# Altium integrated library Maxim Digital Potentiometers.IntLib: 1045 symbols (part 16 of 42)
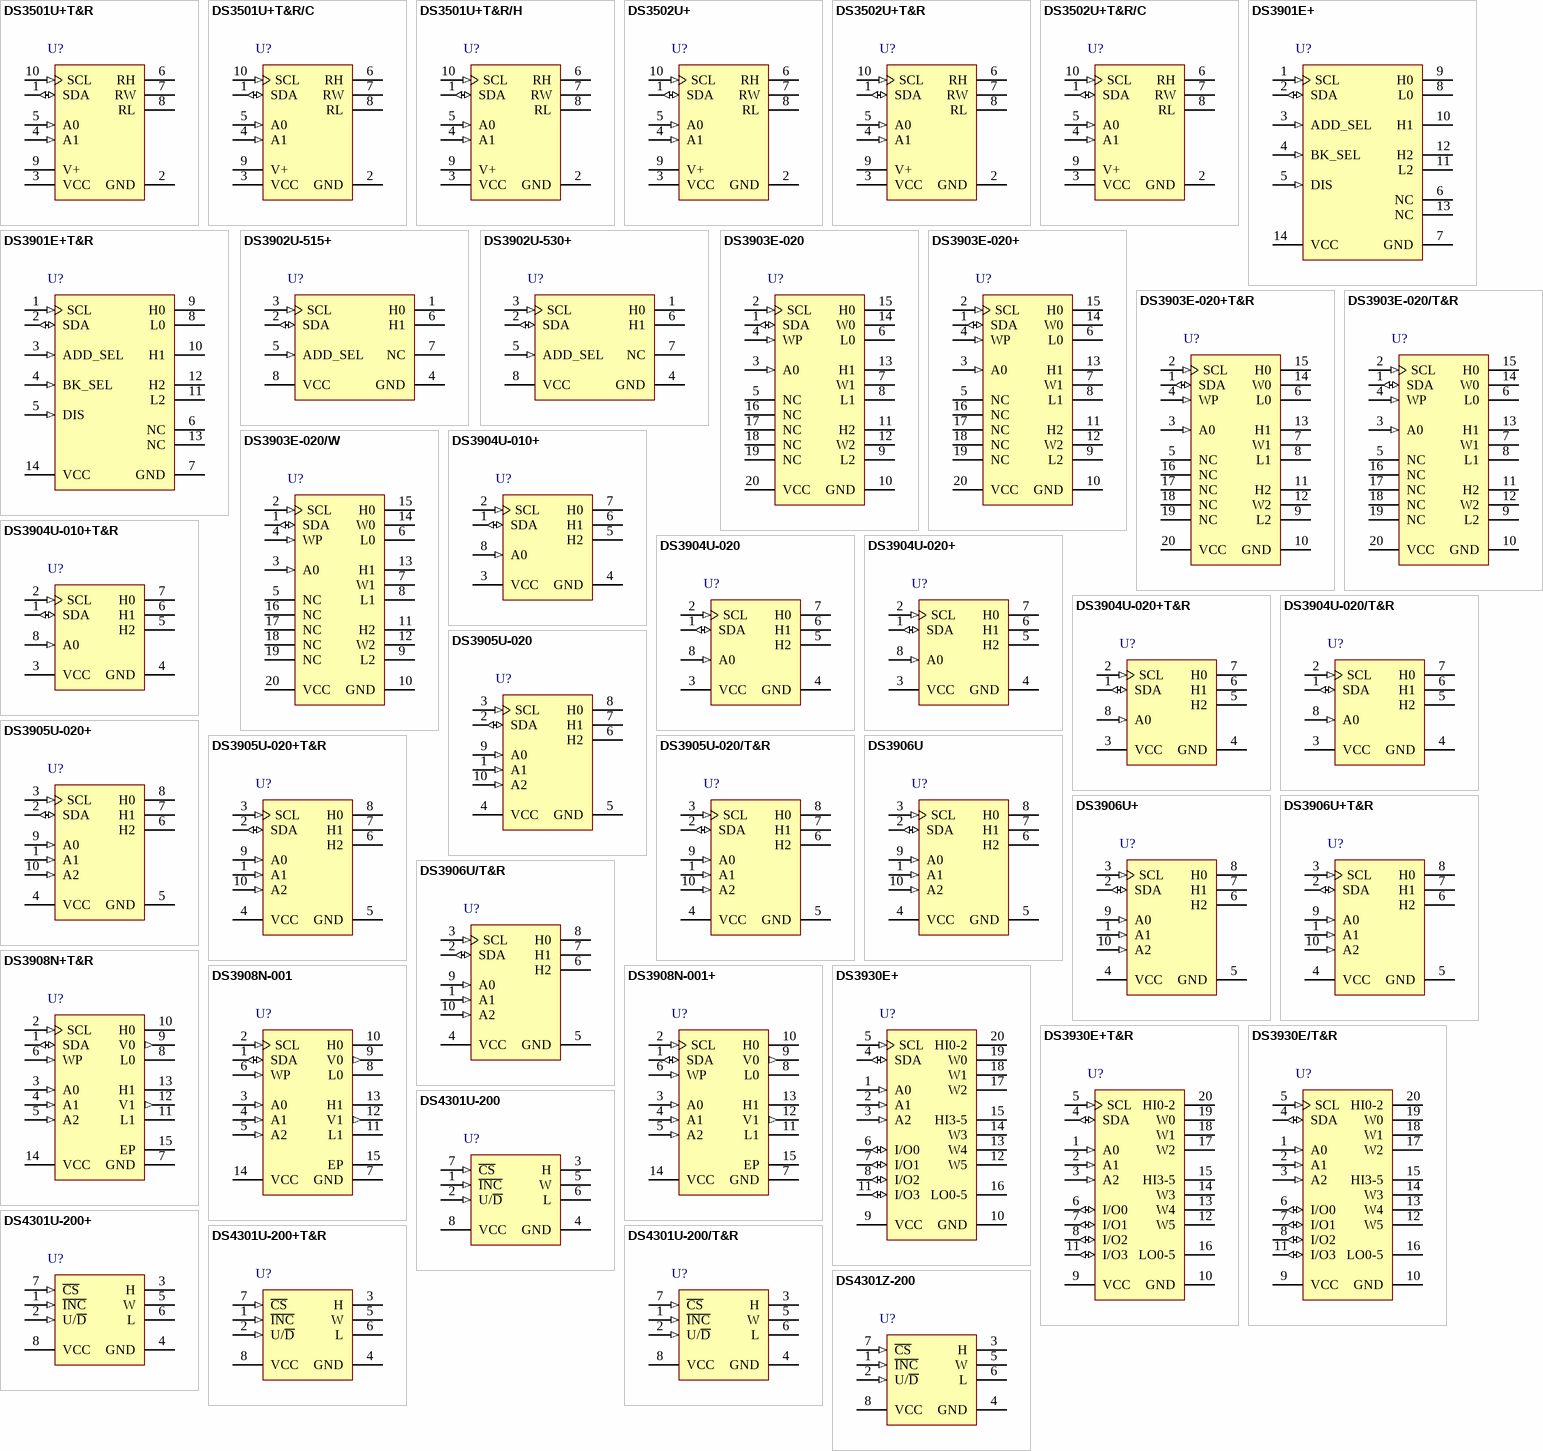
[diagram p44: symbols DS3501U+T&R to DS4301Z-200]

## DS3903E-020+T&R
designator U?
Triple 128-Position Digital Potentiometer with 2-Wire Addressable Control Interface, Non-Volatile, Linear Taper, -40 to 85 degC, 20-pin TSSOP (U20+1), Pb-Free, Tape and Reel; PartNumber: DS3903E-020+T&R; DatasheetVersion: Rev. 0; PackageVersion: Rev. L, 07/2010; PackageReference: U20+1; PackageDescription: 20-Pin Thin Shrink Small-Outline Package (U20+1), Body 6.5 x4.4 mm, Pitch 0.65 mm; Supplier 1: Digi-Key; Supplier Part Number 1: DS3903E-020+T&R-ND; Supplier 2: Mouser; Supplier Part Number 2: 700-DS3903E-020T&R; Applications: Fiber Communications, Power Supply Cal.; Control Interface: 2-Wire Addressable; Features: EEPROM Wiper Memory; Mounting Technology: Surface Mount; Code_JEDEC: MO-153; ComponentLink1Description: Manufacturer URL; ComponentLink1URL: http://www.maximintegrated.com/; ComponentLink2Description: Datasheet; ComponentLink2URL: http://datasheets.maximintegrated.com/en/ds/DS3903.pdf; ComponentLink3Description: Package Specification; ComponentLink3URL: http://pdfserv.maximintegrated.com/package_dwgs/21-0066.PDF
footprint MAXM-U20+1_N (SOP, 20-Leads, Body 6.5x4.4mm, Pitch 0.65mm, IPC Medium Density)
footprint MAXM-U20+1_L (SOP, 20-Leads, Body 6.5x4.4mm, Pitch 0.65mm, IPC High Density)
footprint MAXM-U20+1_M (SOP, 20-Leads, Body 6.5x4.4mm, Pitch 0.65mm, IPC Low Density)
pins: 1 SDA (io) "2-Wire Serial Data. Input/output for 2-wire data.", 2 SCL (in) "2-Wire Serial Clock. Input for 2-wire clock.", 3 A0 (in) "Address-Select Input. Determines device 2-wire address.", 4 WP (in) "Write-Protect Input. Must be grounded to write to the potentiometer registers. An internal pullup locks the potentiometer positions if this pin is not connected.", 5 NC "No Connection", 6 L0 "Potentiometer Low Terminals. Voltages on these pins should remain between GND and +5.5V while VCC is above +2.7V. Low terminals can be at potentials above the wiper or high terminals.", 7 W1 "Potentiometer Wiper Terminal. Voltages on these pins should remain between GND and +5.5V while VCC is above +2.7V.", 8 L1 "Potentiometer Low Terminals. Voltages on these pins should remain between GND and +5.5V while VCC is above +2.7V. Low terminals can be at potentials above the wiper or high terminals.", 9 L2 "Potentiometer Low Terminals. Voltages on these pins should remain between GND and +5.5V while VCC is above +2.7V. Low terminals can be at potentials above the wiper or high terminals.", 10 GND (power) "Ground Terminal", 11 H2 "Potentiometer High Terminals. Voltages on these pins should remain between GND and +5.5V while VCC is above +2.7V. High terminals can be at potentials below the low terminals.", 12 W2 "Potentiometer Wiper Terminal. Voltages on these pins should remain between GND and +5.5V while VCC is above +2.7V.", 13 H1 "Potentiometer High Terminals. Voltages on these pins should remain between GND and +5.5V while VCC is above +2.7V. High terminals can be at potentials below the low terminals.", 14 W0 "Potentiometer Wiper Terminal. Voltages on these pins should remain between GND and +5.5V while VCC is above +2.7V.", 15 H0 "Potentiometer High Terminals. Voltages on these pins should remain between GND and +5.5V while VCC is above +2.7V. High terminals can be at potentials below the low terminals.", 16 NC "No Connection", 17 NC "No Connection", 18 NC "No Connection", 19 NC "No Connection", 20 VCC (power) "Supply Voltage Terminal"

## DS3903E-020/T&R
designator U?
Triple 128-Position Digital Potentiometer with 2-Wire Addressable Control Interface, Non-Volatile, Linear Taper, -40 to 85 degC, 20-pin TSSOP (U20-1), Tape and Reel; PartNumber: DS3903E-020/T&R; DatasheetVersion: Rev. 0; PackageVersion: Rev. L, 07/2010; PackageReference: U20-1; PackageDescription: 20-Pin Thin Shrink Small-Outline Package (U20-1), Body 6.5 x 4.4 mm, Pitch 0.65 mm; Supplier 1: Digi-Key; Supplier Part Number 1: DS3903E-020/T&R-ND; Supplier 2: Mouser; Supplier Part Number 2: N/A; Applications: Fiber Communications, Power Supply Cal.; Control Interface: 2-Wire Addressable; Features: EEPROM Wiper Memory; Mounting Technology: Surface Mount; Code_JEDEC: MO-153; ComponentLink1Description: Manufacturer URL; ComponentLink1URL: http://www.maximintegrated.com/; ComponentLink2Description: Datasheet; ComponentLink2URL: http://datasheets.maximintegrated.com/en/ds/DS3903.pdf; ComponentLink3Description: Package Specification; ComponentLink3URL: http://pdfserv.maximintegrated.com/package_dwgs/21-0066.PDF
footprint MAXM-U20-1_N (SOP, 20-Leads, Body 6.5x4.40mm, Pitch 0.65mm, IPC Medium Density)
footprint MAXM-U20-1_L (SOP, 20-Leads, Body 6.5x4.40mm, Pitch 0.65mm, IPC High Density)
footprint MAXM-U20-1_M (SOP, 20-Leads, Body 6.5x4.40mm, Pitch 0.65mm, IPC Low Density)
pins: 1 SDA (io) "2-Wire Serial Data. Input/output for 2-wire data.", 2 SCL (in) "2-Wire Serial Clock. Input for 2-wire clock.", 3 A0 (in) "Address-Select Input. Determines device 2-wire address.", 4 WP (in) "Write-Protect Input. Must be grounded to write to the potentiometer registers. An internal pullup locks the potentiometer positions if this pin is not connected.", 5 NC "No Connection", 6 L0 "Potentiometer Low Terminals. Voltages on these pins should remain between GND and +5.5V while VCC is above +2.7V. Low terminals can be at potentials above the wiper or high terminals.", 7 W1 "Potentiometer Wiper Terminal. Voltages on these pins should remain between GND and +5.5V while VCC is above +2.7V.", 8 L1 "Potentiometer Low Terminals. Voltages on these pins should remain between GND and +5.5V while VCC is above +2.7V. Low terminals can be at potentials above the wiper or high terminals.", 9 L2 "Potentiometer Low Terminals. Voltages on these pins should remain between GND and +5.5V while VCC is above +2.7V. Low terminals can be at potentials above the wiper or high terminals.", 10 GND (power) "Ground Terminal", 11 H2 "Potentiometer High Terminals. Voltages on these pins should remain between GND and +5.5V while VCC is above +2.7V. High terminals can be at potentials below the low terminals.", 12 W2 "Potentiometer Wiper Terminal. Voltages on these pins should remain between GND and +5.5V while VCC is above +2.7V.", 13 H1 "Potentiometer High Terminals. Voltages on these pins should remain between GND and +5.5V while VCC is above +2.7V. High terminals can be at potentials below the low terminals.", 14 W0 "Potentiometer Wiper Terminal. Voltages on these pins should remain between GND and +5.5V while VCC is above +2.7V.", 15 H0 "Potentiometer High Terminals. Voltages on these pins should remain between GND and +5.5V while VCC is above +2.7V. High terminals can be at potentials below the low terminals.", 16 NC "No Connection", 17 NC "No Connection", 18 NC "No Connection", 19 NC "No Connection", 20 VCC (power) "Supply Voltage Terminal"

## DS3903E-020/W
designator U?
Triple 128-Position Digital Potentiometer with 2-Wire Addressable Control Interface, Non-Volatile, Linear Taper, -40 to 85 degC, 20-pin TSSOP (U20-1); PartNumber: DS3903E-020/W; DatasheetVersion: Rev. 0; PackageVersion: Rev. L, 07/2010; PackageReference: U20-1; PackageDescription: 20-Pin Thin Shrink Small-Outline Package (U20-1), Body 6.5 x 4.4 mm, Pitch 0.65 mm; Supplier 1: Mouser; Supplier Part Number 1: N/A; Applications: Fiber Communications, Power Supply Cal.; Control Interface: 2-Wire Addressable; Features: EEPROM Wiper Memory; Mounting Technology: Surface Mount; Code_JEDEC: MO-153; ComponentLink1Description: Manufacturer URL; ComponentLink1URL: http://www.maximintegrated.com/; ComponentLink2Description: Datasheet; ComponentLink2URL: http://datasheets.maximintegrated.com/en/ds/DS3903.pdf; ComponentLink3Description: Package Specification; ComponentLink3URL: http://pdfserv.maximintegrated.com/package_dwgs/21-0066.PDF
footprint MAXM-U20-1_N (SOP, 20-Leads, Body 6.5x4.40mm, Pitch 0.65mm, IPC Medium Density)
footprint MAXM-U20-1_L (SOP, 20-Leads, Body 6.5x4.40mm, Pitch 0.65mm, IPC High Density)
footprint MAXM-U20-1_M (SOP, 20-Leads, Body 6.5x4.40mm, Pitch 0.65mm, IPC Low Density)
pins: 1 SDA (io) "2-Wire Serial Data. Input/output for 2-wire data.", 2 SCL (in) "2-Wire Serial Clock. Input for 2-wire clock.", 3 A0 (in) "Address-Select Input. Determines device 2-wire address.", 4 WP (in) "Write-Protect Input. Must be grounded to write to the potentiometer registers. An internal pullup locks the potentiometer positions if this pin is not connected.", 5 NC "No Connection", 6 L0 "Potentiometer Low Terminals. Voltages on these pins should remain between GND and +5.5V while VCC is above +2.7V. Low terminals can be at potentials above the wiper or high terminals.", 7 W1 "Potentiometer Wiper Terminal. Voltages on these pins should remain between GND and +5.5V while VCC is above +2.7V.", 8 L1 "Potentiometer Low Terminals. Voltages on these pins should remain between GND and +5.5V while VCC is above +2.7V. Low terminals can be at potentials above the wiper or high terminals.", 9 L2 "Potentiometer Low Terminals. Voltages on these pins should remain between GND and +5.5V while VCC is above +2.7V. Low terminals can be at potentials above the wiper or high terminals.", 10 GND (power) "Ground Terminal", 11 H2 "Potentiometer High Terminals. Voltages on these pins should remain between GND and +5.5V while VCC is above +2.7V. High terminals can be at potentials below the low terminals.", 12 W2 "Potentiometer Wiper Terminal. Voltages on these pins should remain between GND and +5.5V while VCC is above +2.7V.", 13 H1 "Potentiometer High Terminals. Voltages on these pins should remain between GND and +5.5V while VCC is above +2.7V. High terminals can be at potentials below the low terminals.", 14 W0 "Potentiometer Wiper Terminal. Voltages on these pins should remain between GND and +5.5V while VCC is above +2.7V.", 15 H0 "Potentiometer High Terminals. Voltages on these pins should remain between GND and +5.5V while VCC is above +2.7V. High terminals can be at potentials below the low terminals.", 16 NC "No Connection", 17 NC "No Connection", 18 NC "No Connection", 19 NC "No Connection", 20 VCC (power) "Supply Voltage Terminal"

## DS3904U-010+
designator U?
Triple 128-Position Variable Digital Resistor/Switch with 2-Wire Addressable Control Interface, Non-Volatile, Linear Taper, -40 to 85 degC, 8-pin uMAX (U8+1), Pb-Free; PartNumber: DS3904U-010+; DatasheetVersion: Rev. 3; PackageVersion: Rev. L, 08/2009; PackageReference: U8+1; PackageDescription: 8-Pin Micro-MAX, Thin Shrink Small-Outline (U8+1), Body 3 x 3 mm, Pitch 0.65 mm; Supplier 1: Digi-Key; Supplier Part Number 1: DS3904U-010+-ND; Supplier 2: Mouser; Supplier Part Number 2: 700-DS3904U-010; Applications: Fiber Communications, Power Supply Cal.; Control Interface: 2-Wire Addressable; Features: EEPROM Wiper Memory; Mounting Technology: Surface Mount; Code_JEDEC: MO-187; ComponentLink1Description: Manufacturer URL; ComponentLink1URL: http://www.maximintegrated.com/; ComponentLink2Description: Datasheet; ComponentLink2URL: http://datasheets.maximintegrated.com/en/ds/DS3904-DS3905.pdf; ComponentLink3Description: Package Specification; ComponentLink3URL: http://pdfserv.maximintegrated.com/package_dwgs/21-0036.PDF
footprint MAXM-U8+1_N (SOP, 8-Leads, Body 3x3mm, Pitch 0.65mm, IPC Medium Density)
footprint MAXM-U8+1_L (SOP, 8-Leads, Body 3x3mm, Pitch 0.65mm, IPC High Density)
footprint MAXM-U8+1_M (SOP, 8-Leads, Body 3x3mm, Pitch 0.65mm, IPC Low Density)
pins: 1 SDA (io) "2-Wire Serial Data. Open-drain input/output for 2-wire data.", 2 SCL (in) "2-Wire Serial Clock. Input for 2-wire clock.", 3 VCC (power) "Supply Voltage Terminal", 4 GND (power) "Ground Terminal", 5 H2 "Resistor 2 High Terminals", 6 H1 "Resistor 1 High Terminals", 7 H0 "Resistor 0 High Terminals", 8 A0 (in) "Address-Select Pin"

## DS3904U-010+T&R
designator U?
Triple 128-Position Variable Digital Resistor/Switch with 2-Wire Addressable Control Interface, Non-Volatile, Linear Taper, -40 to 85 degC, 8-pin uMAX (U8+1), Pb-Free, Tape and Reel; PartNumber: DS3904U-010+T&R; DatasheetVersion: Rev. 3; PackageVersion: Rev. L, 08/2009; PackageReference: U8+1; PackageDescription: 8-Pin Micro-MAX, Thin Shrink Small-Outline (U8+1), Body 3 x 3 mm, Pitch 0.65 mm; Supplier 1: Digi-Key; Supplier Part Number 1: DS3904U-010+T&R-ND; Supplier 2: Mouser; Supplier Part Number 2: 700-DS3904U-010T&R; Applications: Fiber Communications, Power Supply Cal.; Control Interface: 2-Wire Addressable; Features: EEPROM Wiper Memory; Mounting Technology: Surface Mount; Code_JEDEC: MO-187; ComponentLink1Description: Manufacturer URL; ComponentLink1URL: http://www.maximintegrated.com/; ComponentLink2Description: Datasheet; ComponentLink2URL: http://datasheets.maximintegrated.com/en/ds/DS3904-DS3905.pdf; ComponentLink3Description: Package Specification; ComponentLink3URL: http://pdfserv.maximintegrated.com/package_dwgs/21-0036.PDF
footprint MAXM-U8+1_N (SOP, 8-Leads, Body 3x3mm, Pitch 0.65mm, IPC Medium Density)
footprint MAXM-U8+1_L (SOP, 8-Leads, Body 3x3mm, Pitch 0.65mm, IPC High Density)
footprint MAXM-U8+1_M (SOP, 8-Leads, Body 3x3mm, Pitch 0.65mm, IPC Low Density)
pins: 1 SDA (io) "2-Wire Serial Data. Open-drain input/output for 2-wire data.", 2 SCL (in) "2-Wire Serial Clock. Input for 2-wire clock.", 3 VCC (power) "Supply Voltage Terminal", 4 GND (power) "Ground Terminal", 5 H2 "Resistor 2 High Terminals", 6 H1 "Resistor 1 High Terminals", 7 H0 "Resistor 0 High Terminals", 8 A0 (in) "Address-Select Pin"

## DS3904U-020
designator U?
Triple 128-Position Variable Digital Resistor/Switch with 2-Wire Addressable Control Interface, Non-Volatile, Linear Taper, -40 to 85 degC, 8-pin uMAX (U8-1); PartNumber: DS3904U-020; DatasheetVersion: Rev. 3; PackageVersion: Rev. L, 08/2009; PackageReference: U8-1; PackageDescription: 8-Pin Micro-MAX, Thin Shrink Small-Outline (U8-1), Body 3 x 3 mm, Pitch 0.65mm; Supplier 1: Mouser; Supplier Part Number 1: N/A; Applications: Fiber Communications, Power Supply Cal.; Control Interface: 2-Wire Addressable; Features: EEPROM Wiper Memory; Mounting Technology: Surface Mount; Code_JEDEC: MO-187; ComponentLink1Description: Manufacturer URL; ComponentLink1URL: http://www.maximintegrated.com/; ComponentLink2Description: Datasheet; ComponentLink2URL: http://datasheets.maximintegrated.com/en/ds/DS3904-DS3905.pdf; ComponentLink3Description: Package Specification; ComponentLink3URL: http://pdfserv.maximintegrated.com/package_dwgs/21-0036.PDF
footprint MAXM-U8-1_N (SOP, 8-Leads, Body 3x3mm, Pitch 0.65mm, IPC Medium Density)
footprint MAXM-U8-1_L (SOP, 8-Leads, Body 3x3mm, Pitch 0.65mm, IPC High Density)
footprint MAXM-U8-1_M (SOP, 8-Leads, Body 3x3mm, Pitch 0.65mm, IPC Low Density)
pins: 1 SDA (io) "2-Wire Serial Data. Open-drain input/output for 2-wire data.", 2 SCL (in) "2-Wire Serial Clock. Input for 2-wire clock.", 3 VCC (power) "Supply Voltage Terminal", 4 GND (power) "Ground Terminal", 5 H2 "Resistor 2 High Terminals", 6 H1 "Resistor 1 High Terminals", 7 H0 "Resistor 0 High Terminals", 8 A0 (in) "Address-Select Pin"

## DS3904U-020+
designator U?
Triple 128-Position Variable Digital Resistor/Switch with 2-Wire Addressable Control Interface, Non-Volatile, Linear Taper, -40 to 85 degC, 8-pin uMAX (U8+1), Pb-Free; PartNumber: DS3904U-020+; DatasheetVersion: Rev. 3; PackageVersion: Rev. L, 08/2009; PackageReference: U8+1; PackageDescription: 8-Pin Micro-MAX, Thin Shrink Small-Outline (U8+1), Body 3 x 3 mm, Pitch 0.65 mm; Supplier 1: Digi-Key; Supplier Part Number 1: DS3904U-020+-ND; Supplier 2: Newark; Supplier Part Number 2: 87H5662; Supplier 3: Mouser; Supplier Part Number 3: 700-DS3904U-020; Applications: Fiber Communications, Power Supply Cal.; Control Interface: 2-Wire Addressable; Features: EEPROM Wiper Memory; Mounting Technology: Surface Mount; Code_JEDEC: MO-187; ComponentLink1Description: Manufacturer URL; ComponentLink1URL: http://www.maximintegrated.com/; ComponentLink2Description: Datasheet; ComponentLink2URL: http://datasheets.maximintegrated.com/en/ds/DS3904-DS3905.pdf; ComponentLink3Description: Package Specification; ComponentLink3URL: http://pdfserv.maximintegrated.com/package_dwgs/21-0036.PDF
footprint MAXM-U8+1_N (SOP, 8-Leads, Body 3x3mm, Pitch 0.65mm, IPC Medium Density)
footprint MAXM-U8+1_L (SOP, 8-Leads, Body 3x3mm, Pitch 0.65mm, IPC High Density)
footprint MAXM-U8+1_M (SOP, 8-Leads, Body 3x3mm, Pitch 0.65mm, IPC Low Density)
pins: 1 SDA (io) "2-Wire Serial Data. Open-drain input/output for 2-wire data.", 2 SCL (in) "2-Wire Serial Clock. Input for 2-wire clock.", 3 VCC (power) "Supply Voltage Terminal", 4 GND (power) "Ground Terminal", 5 H2 "Resistor 2 High Terminals", 6 H1 "Resistor 1 High Terminals", 7 H0 "Resistor 0 High Terminals", 8 A0 (in) "Address-Select Pin"

## DS3904U-020+T&R
designator U?
Triple 128-Position Variable Digital Resistor/Switch with 2-Wire Addressable Control Interface, Non-Volatile, Linear Taper, -40 to 85 degC, 8-pin uMAX (U8+1), Pb-Free, Tape and Reel; PartNumber: DS3904U-020+T&R; DatasheetVersion: Rev. 3; PackageVersion: Rev. L, 08/2009; PackageReference: U8+1; PackageDescription: 8-Pin Micro-MAX, Thin Shrink Small-Outline (U8+1), Body 3 x 3 mm, Pitch 0.65 mm; Supplier 1: Digi-Key; Supplier Part Number 1: DS3904U-020+T&R-ND; Supplier 2: Mouser; Supplier Part Number 2: 700-DS3904U-020T&R; Applications: Fiber Communications, Power Supply Cal.; Control Interface: 2-Wire Addressable; Features: EEPROM Wiper Memory; Mounting Technology: Surface Mount; Code_JEDEC: MO-187; ComponentLink1Description: Manufacturer URL; ComponentLink1URL: http://www.maximintegrated.com/; ComponentLink2Description: Datasheet; ComponentLink2URL: http://datasheets.maximintegrated.com/en/ds/DS3904-DS3905.pdf; ComponentLink3Description: Package Specification; ComponentLink3URL: http://pdfserv.maximintegrated.com/package_dwgs/21-0036.PDF
footprint MAXM-U8+1_N (SOP, 8-Leads, Body 3x3mm, Pitch 0.65mm, IPC Medium Density)
footprint MAXM-U8+1_L (SOP, 8-Leads, Body 3x3mm, Pitch 0.65mm, IPC High Density)
footprint MAXM-U8+1_M (SOP, 8-Leads, Body 3x3mm, Pitch 0.65mm, IPC Low Density)
pins: 1 SDA (io) "2-Wire Serial Data. Open-drain input/output for 2-wire data.", 2 SCL (in) "2-Wire Serial Clock. Input for 2-wire clock.", 3 VCC (power) "Supply Voltage Terminal", 4 GND (power) "Ground Terminal", 5 H2 "Resistor 2 High Terminals", 6 H1 "Resistor 1 High Terminals", 7 H0 "Resistor 0 High Terminals", 8 A0 (in) "Address-Select Pin"

## DS3904U-020/T&R
designator U?
Triple 128-Position Variable Digital Resistor/Switch with 2-Wire Addressable Control Interface, Non-Volatile, Linear Taper, -40 to 85 degC, 8-pin uMAX (U8-1), Tape and Reel; PartNumber: DS3904U-020/T&R; DatasheetVersion: Rev. 3; PackageVersion: Rev. L, 08/2009; PackageReference: U8-1; PackageDescription: 8-Pin Micro-MAX, Thin Shrink Small-Outline (U8-1), Body 3 x 3 mm, Pitch 0.65mm; Supplier 1: Mouser; Supplier Part Number 1: N/A; Applications: Fiber Communications, Power Supply Cal.; Control Interface: 2-Wire Addressable; Features: EEPROM Wiper Memory; Mounting Technology: Surface Mount; Code_JEDEC: MO-187; ComponentLink1Description: Manufacturer URL; ComponentLink1URL: http://www.maximintegrated.com/; ComponentLink2Description: Datasheet; ComponentLink2URL: http://datasheets.maximintegrated.com/en/ds/DS3904-DS3905.pdf; ComponentLink3Description: Package Specification; ComponentLink3URL: http://pdfserv.maximintegrated.com/package_dwgs/21-0036.PDF
footprint MAXM-U8-1_N (SOP, 8-Leads, Body 3x3mm, Pitch 0.65mm, IPC Medium Density)
footprint MAXM-U8-1_L (SOP, 8-Leads, Body 3x3mm, Pitch 0.65mm, IPC High Density)
footprint MAXM-U8-1_M (SOP, 8-Leads, Body 3x3mm, Pitch 0.65mm, IPC Low Density)
pins: 1 SDA (io) "2-Wire Serial Data. Open-drain input/output for 2-wire data.", 2 SCL (in) "2-Wire Serial Clock. Input for 2-wire clock.", 3 VCC (power) "Supply Voltage Terminal", 4 GND (power) "Ground Terminal", 5 H2 "Resistor 2 High Terminals", 6 H1 "Resistor 1 High Terminals", 7 H0 "Resistor 0 High Terminals", 8 A0 (in) "Address-Select Pin"

## DS3905U-020
designator U?
Triple, Variable, Digital Resistor/Switch with 2-Wire Addressable Control Interface, Non-Volatile, Linear Taper, 128 Steps, -40 to 85 degC, 10-pin uMAX (U10-2); PartNumber: DS3905U-020; DatasheetVersion: Rev. 3; PackageVersion: Rev. L, 07/2008; PackageReference: U10-2; PackageDescription: 10-Pin Micro-MAX, Thin Shrink Small-Outline (U10-2), Body 3 x 3 mm, Pitch 0.5 mm; Supplier 1: Digi-Key; Supplier Part Number 1: DS3905U-020-ND; Supplier 2: Mouser; Supplier Part Number 2: N/A; Applications: Fiber Communications, Power Supply Cal.; Control Interface: 2-Wire Addressable; Features: EEPROM Wiper Memory; Mounting Technology: Surface Mount; Code_JEDEC: MO-187; ComponentLink1Description: Manufacturer URL; ComponentLink1URL: http://www.maximintegrated.com/; ComponentLink2Description: Datasheet; ComponentLink2URL: http://datasheets.maximintegrated.com/en/ds/DS3904-DS3905.pdf; ComponentLink3Description: Package Specification; ComponentLink3URL: http://pdfserv.maximintegrated.com/package_dwgs/21-0061.PDF
footprint MAXM-U10-2_N (SOP, 10-Leads, Body 3x3mm, Pitch 0.5mm, IPC Medium Density)
footprint MAXM-U10-2_L (SOP, 10-Leads, Body 3x3mm, Pitch 0.5mm, IPC High Density)
footprint MAXM-U10-2_M (SOP, 10-Leads, Body 3x3mm, Pitch 0.5mm, IPC Low Density)
pins: 1 A1 (in) "I2C Address Input. Inputs A0, A1, and A2 determine the I2C slave address of the device.", 2 SDA (io) "I2C Serial Data Open-Drain Input/Output", 3 SCL (in) "I2C Serial Clock Input", 4 VCC (power) "Power Supply Voltage", 5 GND (power) "Ground", 6 H2 "High Terminal of Resistor 2", 7 H1 "High Terminal of Resistor 1", 8 H0 "High Terminal of Resistor 0", 9 A0 (in) "I2C Address Input. Inputs A0, A1, and A2 determine the I2C slave address of the device.", 10 A2 (in) "I2C Address Input. Inputs A0, A1, and A2 determine the I2C slave address of the device."

## DS3905U-020+
designator U?
Triple, Variable, Digital Resistor/Switch with 2-Wire Addressable Control Interface, Non-Volatile, Linear Taper, 128 Steps, -40 to 85 degC, 10-pin uMAX (U10+2), Pb-Free; PartNumber: DS3905U-020+; DatasheetVersion: Rev. 3; PackageVersion: Rev. L, 07/2008; PackageReference: U10+2; PackageDescription: 10-Pin Micro-MAX, Thin Shrink Small-Outline (U10+2), Body 3 x 3 mm, Pitch 0.5 mm; Supplier 1: Digi-Key; Supplier Part Number 1: DS3905U-020+-ND; Supplier 2: Mouser; Supplier Part Number 2: 700-DS3905U-020; Applications: Fiber Communications, Power Supply Cal.; Control Interface: 2-Wire Addressable; Features: EEPROM Wiper Memory; Mounting Technology: Surface Mount; Code_JEDEC: MO-187; ComponentLink1Description: Manufacturer URL; ComponentLink1URL: http://www.maximintegrated.com/; ComponentLink2Description: Datasheet; ComponentLink2URL: http://datasheets.maximintegrated.com/en/ds/DS3904-DS3905.pdf; ComponentLink3Description: Package Specification; ComponentLink3URL: http://pdfserv.maximintegrated.com/package_dwgs/21-0061.PDF
footprint MAXM-U10+2_N (SOP, 10-Leads, Body 3x3mm, Pitch 0.5mm, IPC Medium Density)
footprint MAXM-U10+2_L (SOP, 10-Leads, Body 3x3mm, Pitch 0.5mm, IPC High Density)
footprint MAXM-U10+2_M (SOP, 10-Leads, Body 3x3mm, Pitch 0.5mm, IPC Low Density)
pins: 1 A1 (in) "I2C Address Input. Inputs A0, A1, and A2 determine the I2C slave address of the device.", 2 SDA (io) "I2C Serial Data Open-Drain Input/Output", 3 SCL (in) "I2C Serial Clock Input", 4 VCC (power) "Power Supply Voltage", 5 GND (power) "Ground", 6 H2 "High Terminal of Resistor 2", 7 H1 "High Terminal of Resistor 1", 8 H0 "High Terminal of Resistor 0", 9 A0 (in) "I2C Address Input. Inputs A0, A1, and A2 determine the I2C slave address of the device.", 10 A2 (in) "I2C Address Input. Inputs A0, A1, and A2 determine the I2C slave address of the device."

## DS3905U-020+T&R
designator U?
Triple, Variable, Digital Resistor/Switch with 2-Wire Addressable Control Interface, Non-Volatile, Linear Taper, 128 Steps, -40 to 85 degC, 10-pin uMAX (U10+2), Pb-Free, Tape and Reel; PartNumber: DS3905U-020+T&R; DatasheetVersion: Rev. 3; PackageVersion: Rev. L, 07/2008; PackageReference: U10+2; PackageDescription: 10-Pin Micro-MAX, Thin Shrink Small-Outline (U10+2), Body 3 x 3 mm, Pitch 0.5 mm; Supplier 1: Digi-Key; Supplier Part Number 1: DS3905U-020+T&R-ND; Supplier 2: Mouser; Supplier Part Number 2: 700-DS3905U-020T&R; Applications: Fiber Communications, Power Supply Cal.; Control Interface: 2-Wire Addressable; Features: EEPROM Wiper Memory; Mounting Technology: Surface Mount; Code_JEDEC: MO-187; ComponentLink1Description: Manufacturer URL; ComponentLink1URL: http://www.maximintegrated.com/; ComponentLink2Description: Datasheet; ComponentLink2URL: http://datasheets.maximintegrated.com/en/ds/DS3904-DS3905.pdf; ComponentLink3Description: Package Specification; ComponentLink3URL: http://pdfserv.maximintegrated.com/package_dwgs/21-0061.PDF
footprint MAXM-U10+2_N (SOP, 10-Leads, Body 3x3mm, Pitch 0.5mm, IPC Medium Density)
footprint MAXM-U10+2_L (SOP, 10-Leads, Body 3x3mm, Pitch 0.5mm, IPC High Density)
footprint MAXM-U10+2_M (SOP, 10-Leads, Body 3x3mm, Pitch 0.5mm, IPC Low Density)
pins: 1 A1 (in) "I2C Address Input. Inputs A0, A1, and A2 determine the I2C slave address of the device.", 2 SDA (io) "I2C Serial Data Open-Drain Input/Output", 3 SCL (in) "I2C Serial Clock Input", 4 VCC (power) "Power Supply Voltage", 5 GND (power) "Ground", 6 H2 "High Terminal of Resistor 2", 7 H1 "High Terminal of Resistor 1", 8 H0 "High Terminal of Resistor 0", 9 A0 (in) "I2C Address Input. Inputs A0, A1, and A2 determine the I2C slave address of the device.", 10 A2 (in) "I2C Address Input. Inputs A0, A1, and A2 determine the I2C slave address of the device."

## DS3905U-020/T&R
designator U?
Triple, Variable, Digital Resistor/Switch with 2-Wire Addressable Control Interface, Non-Volatile, Linear Taper, 128 Steps, -40 to 85 degC, 10-pin uMAX (U10-2), Tape and Reel; PartNumber: DS3905U-020/T&R; DatasheetVersion: Rev. 3; PackageVersion: Rev. L, 07/2008; PackageReference: U10-2; PackageDescription: 10-Pin Micro-MAX, Thin Shrink Small-Outline (U10-2), Body 3 x 3 mm, Pitch 0.5 mm; Supplier 1: Mouser; Supplier Part Number 1: N/A; Applications: Fiber Communications, Power Supply Cal.; Control Interface: 2-Wire Addressable; Features: EEPROM Wiper Memory; Mounting Technology: Surface Mount; Code_JEDEC: MO-187; ComponentLink1Description: Manufacturer URL; ComponentLink1URL: http://www.maximintegrated.com/; ComponentLink2Description: Datasheet; ComponentLink2URL: http://datasheets.maximintegrated.com/en/ds/DS3904-DS3905.pdf; ComponentLink3Description: Package Specification; ComponentLink3URL: http://pdfserv.maximintegrated.com/package_dwgs/21-0061.PDF
footprint MAXM-U10-2_N (SOP, 10-Leads, Body 3x3mm, Pitch 0.5mm, IPC Medium Density)
footprint MAXM-U10-2_L (SOP, 10-Leads, Body 3x3mm, Pitch 0.5mm, IPC High Density)
footprint MAXM-U10-2_M (SOP, 10-Leads, Body 3x3mm, Pitch 0.5mm, IPC Low Density)
pins: 1 A1 (in) "I2C Address Input. Inputs A0, A1, and A2 determine the I2C slave address of the device.", 2 SDA (io) "I2C Serial Data Open-Drain Input/Output", 3 SCL (in) "I2C Serial Clock Input", 4 VCC (power) "Power Supply Voltage", 5 GND (power) "Ground", 6 H2 "High Terminal of Resistor 2", 7 H1 "High Terminal of Resistor 1", 8 H0 "High Terminal of Resistor 0", 9 A0 (in) "I2C Address Input. Inputs A0, A1, and A2 determine the I2C slave address of the device.", 10 A2 (in) "I2C Address Input. Inputs A0, A1, and A2 determine the I2C slave address of the device."

## DS3906U
designator U?
Triple NV Low Step Size Variable Resistor plus Memory with 2-Wire Control Interface, Non-Volatile, Pseudo-Log Taper, 64 Steps, -40 to 85 degC, 10-pin uMAX (U10-2); PartNumber: DS3906U; DatasheetVersion: Rev. 1; PackageVersion: Rev. L, 07/2008; PackageReference: U10-2; PackageDescription: 10-Pin Micro-MAX, Thin Shrink Small-Outline (U10-2), Body 3 x 3 mm, Pitch 0.5 mm; Supplier 1: Mouser; Supplier Part Number 1: N/A; Applications: LED Driver, Low Step Size Applications; Control Interface: 2-Wire; Features: Custom Programmed Resistance Response, EEPROM Wiper Memory ,Small Step-Size with External Resistance; Mounting Technology: Surface Mount; Code_JEDEC: MO-187; ComponentLink1Description: Manufacturer URL; ComponentLink1URL: http://www.maximintegrated.com/; ComponentLink2Description: Datasheet; ComponentLink2URL: http://datasheets.maximintegrated.com/en/ds/DS3906.pdf; ComponentLink3Description: Package Specification; ComponentLink3URL: http://pdfserv.maximintegrated.com/package_dwgs/21-0061.PDF
footprint MAXM-U10-2_N (SOP, 10-Leads, Body 3x3mm, Pitch 0.5mm, IPC Medium Density)
footprint MAXM-U10-2_L (SOP, 10-Leads, Body 3x3mm, Pitch 0.5mm, IPC High Density)
footprint MAXM-U10-2_M (SOP, 10-Leads, Body 3x3mm, Pitch 0.5mm, IPC Low Density)
pins: 1 A1 (in) "I2C Address Input. Inputs A0, A1, and A2 determine the I2C slave address of the device.", 2 SDA (io) "I2C Serial Data Open-Drain Input/Output", 3 SCL (in) "I2C Serial Clock Input", 4 VCC (power) "Power Supply Voltage", 5 GND (power) "Ground", 6 H2 "High Terminal of Resistor 2", 7 H1 "High Terminal of Resistor 1", 8 H0 "High Terminal of Resistor 0", 9 A0 (in) "I2C Address Input. Inputs A0, A1, and A2 determine the I2C slave address of the device.", 10 A2 (in) "I2C Address Input. Inputs A0, A1, and A2 determine the I2C slave address of the device."

## DS3906U+
designator U?
Triple NV Low Step Size Variable Resistor plus Memory with 2-Wire Control Interface, Non-Volatile, Pseudo-Log Taper, 64 Steps, -40 to 85 degC, 10-pin uMAX (U10+2), Pb-Free; PartNumber: DS3906U+; DatasheetVersion: Rev. 1; PackageVersion: Rev. L, 07/2008; PackageReference: U10+2; PackageDescription: 10-Pin Micro-MAX, Thin Shrink Small-Outline (U10+2), Body 3 x 3 mm, Pitch 0.5 mm; Supplier 1: Digi-Key; Supplier Part Number 1: DS3906U+-ND; Supplier 2: Mouser; Supplier Part Number 2: 700-DS3906U; Applications: LED Driver, Low Step Size Applications; Control Interface: 2-Wire; Features: Custom Programmed Resistance Response, EEPROM Wiper Memory ,Small Step-Size with External Resistance; Mounting Technology: Surface Mount; Code_JEDEC: MO-187; ComponentLink1Description: Manufacturer URL; ComponentLink1URL: http://www.maximintegrated.com/; ComponentLink2Description: Datasheet; ComponentLink2URL: http://datasheets.maximintegrated.com/en/ds/DS3906.pdf; ComponentLink3Description: Package Specification; ComponentLink3URL: http://pdfserv.maximintegrated.com/package_dwgs/21-0061.PDF
footprint MAXM-U10+2_N (SOP, 10-Leads, Body 3x3mm, Pitch 0.5mm, IPC Medium Density)
footprint MAXM-U10+2_L (SOP, 10-Leads, Body 3x3mm, Pitch 0.5mm, IPC High Density)
footprint MAXM-U10+2_M (SOP, 10-Leads, Body 3x3mm, Pitch 0.5mm, IPC Low Density)
pins: 1 A1 (in) "I2C Address Input. Inputs A0, A1, and A2 determine the I2C slave address of the device.", 2 SDA (io) "I2C Serial Data Open-Drain Input/Output", 3 SCL (in) "I2C Serial Clock Input", 4 VCC (power) "Power Supply Voltage", 5 GND (power) "Ground", 6 H2 "High Terminal of Resistor 2", 7 H1 "High Terminal of Resistor 1", 8 H0 "High Terminal of Resistor 0", 9 A0 (in) "I2C Address Input. Inputs A0, A1, and A2 determine the I2C slave address of the device.", 10 A2 (in) "I2C Address Input. Inputs A0, A1, and A2 determine the I2C slave address of the device."

## DS3906U+T&R
designator U?
Triple NV Low Step Size Variable Resistor plus Memory with 2-Wire Control Interface, Non-Volatile, Pseudo-Log Taper, 64 Steps, -40 to 85 degC, 10-pin uMAX (U10+2), Pb-Free, Tape and Reel; PartNumber: DS3906U+T&R; DatasheetVersion: Rev. 1; PackageVersion: Rev. L, 07/2008; PackageReference: U10+2; PackageDescription: 10-Pin Micro-MAX, Thin Shrink Small-Outline (U10+2), Body 3 x 3 mm, Pitch 0.5 mm; Supplier 1: Digi-Key; Supplier Part Number 1: DS3906U+T&R-ND; Supplier 2: Mouser; Supplier Part Number 2: 700-DS3906UT&R; Applications: LED Driver, Low Step Size Applications; Control Interface: 2-Wire; Features: Custom Programmed Resistance Response, EEPROM Wiper Memory ,Small Step-Size with External Resistance; Mounting Technology: Surface Mount; Code_JEDEC: MO-187; ComponentLink1Description: Manufacturer URL; ComponentLink1URL: http://www.maximintegrated.com/; ComponentLink2Description: Datasheet; ComponentLink2URL: http://datasheets.maximintegrated.com/en/ds/DS3906.pdf; ComponentLink3Description: Package Specification; ComponentLink3URL: http://pdfserv.maximintegrated.com/package_dwgs/21-0061.PDF
footprint MAXM-U10+2_N (SOP, 10-Leads, Body 3x3mm, Pitch 0.5mm, IPC Medium Density)
footprint MAXM-U10+2_L (SOP, 10-Leads, Body 3x3mm, Pitch 0.5mm, IPC High Density)
footprint MAXM-U10+2_M (SOP, 10-Leads, Body 3x3mm, Pitch 0.5mm, IPC Low Density)
pins: 1 A1 (in) "I2C Address Input. Inputs A0, A1, and A2 determine the I2C slave address of the device.", 2 SDA (io) "I2C Serial Data Open-Drain Input/Output", 3 SCL (in) "I2C Serial Clock Input", 4 VCC (power) "Power Supply Voltage", 5 GND (power) "Ground", 6 H2 "High Terminal of Resistor 2", 7 H1 "High Terminal of Resistor 1", 8 H0 "High Terminal of Resistor 0", 9 A0 (in) "I2C Address Input. Inputs A0, A1, and A2 determine the I2C slave address of the device.", 10 A2 (in) "I2C Address Input. Inputs A0, A1, and A2 determine the I2C slave address of the device."

## DS3906U/T&R
designator U?
Triple NV Low Step Size Variable Resistor plus Memory with 2-Wire Control Interface, Non-Volatile, Pseudo-Log Taper, 64 Steps, -40 to 85 degC, 10-pin uMAX (U10-2), Tape and Reel; PartNumber: DS3906U/T&R; DatasheetVersion: Rev. 1; PackageVersion: Rev. L, 07/2008; PackageReference: U10-2; PackageDescription: 10-Pin Micro-MAX, Thin Shrink Small-Outline (U10-2), Body 3 x 3 mm, Pitch 0.5 mm; Supplier 1: Mouser; Supplier Part Number 1: N/A; Applications: LED Driver, Low Step Size Applications; Control Interface: 2-Wire; Features: Custom Programmed Resistance Response, EEPROM Wiper Memory ,Small Step-Size with External Resistance; Mounting Technology: Surface Mount; Code_JEDEC: MO-187; ComponentLink1Description: Manufacturer URL; ComponentLink1URL: http://www.maximintegrated.com/; ComponentLink2Description: Datasheet; ComponentLink2URL: http://datasheets.maximintegrated.com/en/ds/DS3906.pdf; ComponentLink3Description: Package Specification; ComponentLink3URL: http://pdfserv.maximintegrated.com/package_dwgs/21-0061.PDF
footprint MAXM-U10-2_N (SOP, 10-Leads, Body 3x3mm, Pitch 0.5mm, IPC Medium Density)
footprint MAXM-U10-2_L (SOP, 10-Leads, Body 3x3mm, Pitch 0.5mm, IPC High Density)
footprint MAXM-U10-2_M (SOP, 10-Leads, Body 3x3mm, Pitch 0.5mm, IPC Low Density)
pins: 1 A1 (in) "I2C Address Input. Inputs A0, A1, and A2 determine the I2C slave address of the device.", 2 SDA (io) "I2C Serial Data Open-Drain Input/Output", 3 SCL (in) "I2C Serial Clock Input", 4 VCC (power) "Power Supply Voltage", 5 GND (power) "Ground", 6 H2 "High Terminal of Resistor 2", 7 H1 "High Terminal of Resistor 1", 8 H0 "High Terminal of Resistor 0", 9 A0 (in) "I2C Address Input. Inputs A0, A1, and A2 determine the I2C slave address of the device.", 10 A2 (in) "I2C Address Input. Inputs A0, A1, and A2 determine the I2C slave address of the device."

## DS3908N+T&R
designator U?
Dual, Digital Potentiometer with Buffered Outputs with I2C Control Interface, Non-Volatile, Linear Taper, 64 Steps, -40 to 85 degC, 14-pin TDFN-EP (T1433+1), Pb-Free, Tape and Reel; PartNumber: DS3908N+T&R; DatasheetVersion: Rev. 0; PackageVersion: Rev. J, 08/2009; PackageReference: T1433+1; PackageDescription: 14-Pin Plastic Very Very Thin Dual Flatpack No Leads, Exposed Pad (T1433+1), Body 3 x 3mm, Pitch 0.4 mm; Supplier 1: Digi-Key; Supplier Part Number 1: DS3908N+T&R-ND; Supplier 2: Mouser; Supplier Part Number 2: 700-DS3908NT&R; Control Interface: I2C; Features: Buffered Wiper Outputs; Mounting Technology: Surface Mount; Code_JEDEC: MO229; ComponentLink1Description: Manufacturer URL; ComponentLink1URL: http://www.maximintegrated.com/; ComponentLink2Description: Datasheet; ComponentLink2URL: http://datasheets.maximintegrated.com/en/ds/DS3908.pdf; ComponentLink3Description: Package Specification; ComponentLink3URL: http://pdfserv.maximintegrated.com/package_dwgs/21-0137.PDF
footprint MAXM-T1433+1_V (SON, 14-Leads, Body 3x3mm, Pitch 0.4mm, Thermal Pad 2.35x1.78mm)
pins: 1 SDA (io) "I2C Serial Data. Input/output for I2C data.", 2 SCL (in) "I2C Serial Clock. Input for I2C clock.", 3 A0 (in) "Address-Select Input. Determines I2C address. Device address is 1010A2A1A0. (See the I2C Slave Address and Address Pins section for more details.)", 4 A1 (in) "Address-Select Input. Determines I2C address. Device address is 1010A2A1A0. (See the I2C Slave Address and Address Pins section for more details.)", 5 A2 (in) "Address-Select Input. Determines I2C address. Device address is 1010A2A1A0. (See the I2C Slave Address and Address Pins section for more details.)", 6 WP (in) "Write-Protect Input. Must be grounded to write to the registers. An internal pullup will lock the register values if this pin is not connected.", 7 GND (power) "Ground Terminal.", 8 L0 "Potentiometer Low Terminal. Voltage on this pin should remain between GND and VCC.", 9 V0 (out) "Amplifier Output.", 10 H0 "Potentiometer High Terminal. Voltage on this pin should remain between GND and VCC.", 11 L1 "Potentiometer Low Terminal. Voltage on this pin should remain between GND and VCC.", 12 V1 (out) "Amplifier Output.", 13 H1 "Potentiometer High Terminal. Voltage on this pin should remain between GND and VCC.", 14 VCC (power) "Supply Voltage Terminal.", 15 EP

## DS3908N-001
designator U?
Dual, Digital Potentiometer with Buffered Outputs with I2C Control Interface, Non-Volatile, Linear Taper, 64 Steps, -40 to 85 degC, 14-pin TDFN-EP (T1433-1); PartNumber: DS3908N-001; DatasheetVersion: Rev. 0; PackageVersion: Rev. J, 08/2009; PackageReference: T1433-1; PackageDescription: 14-Pin Plastic Very Very Thin Dual Flatpack No Leads, Exposed Pad (T1433-1), Body 3 x 3mm, Pitch 0.4 mm; Supplier 1: Mouser; Supplier Part Number 1: N/A; Control Interface: I2C; Features: Buffered Wiper Outputs; Mounting Technology: Surface Mount; Code_JEDEC: MO229; ComponentLink1Description: Manufacturer URL; ComponentLink1URL: http://www.maximintegrated.com/; ComponentLink2Description: Datasheet; ComponentLink2URL: http://datasheets.maximintegrated.com/en/ds/DS3908.pdf; ComponentLink3Description: Package Specification; ComponentLink3URL: http://pdfserv.maximintegrated.com/package_dwgs/21-0137.PDF
footprint MAXM-T1433-1_V (SON, 14-Leads, Body 3x3mm, Pitch 0.4mm, Thermal Pad 1.7x2.3mm, Recommended)
pins: 1 SDA (io) "I2C Serial Data. Input/output for I2C data.", 2 SCL (in) "I2C Serial Clock. Input for I2C clock.", 3 A0 (in) "Address-Select Inputs. Determines I2C address. Device address is 1010A2A1A0. (See the I2C Slave Address and Address Pins section for more details.)", 4 A1 (in) "Address-Select Inputs. Determines I2C address. Device address is 1010A2A1A0. (See the I2C Slave Address and Address Pins section for more details.)", 5 A2 (in) "Address-Select Inputs. Determines I2C address. Device address is 1010A2A1A0. (See the I2C Slave Address and Address Pins section for more details.)", 6 WP (in) "Write-Protect Input. Must be grounded to write to the registers. An internal pullup will lock the register values if this pin is not connected.", 7 GND (power) "Ground Terminal", 8 L0 "Potentiometer Low Terminals. Voltages on these pins should remain between GND and VCC.", 9 V0 (out) "Amplifier Outputs", 10 H0 "Potentiometer High Terminals. Voltages on these pins should remain between GND and VCC.", 11 L1 "Potentiometer Low Terminals. Voltages on these pins should remain between GND and VCC.", 12 V1 (out) "Amplifier Outputs", 13 H1 "Potentiometer High Terminals. Voltages on these pins should remain between GND and VCC.", 14 VCC (power) "Supply Voltage Terminal", 15 EP

## DS3908N-001+
designator U?
Dual, Digital Potentiometer with Buffered Outputs with I2C Control Interface, Non-Volatile, Linear Taper, 64 Steps, -40 to 85 degC, 14-pin TDFN-EP (T1433+1), Pb-Free; PartNumber: DS3908N-001+; DatasheetVersion: Rev. 0; PackageVersion: Rev. J, 08/2009; PackageReference: T1433+1; PackageDescription: 14-Pin Plastic Very Very Thin Dual Flatpack No Leads, Exposed Pad (T1433+1), Body 3 x 3mm, Pitch 0.4 mm; Supplier 1: Mouser; Supplier Part Number 1: N/A; Control Interface: I2C; Features: Buffered Wiper Outputs; Mounting Technology: Surface Mount; Code_JEDEC: MO229; ComponentLink1Description: Manufacturer URL; ComponentLink1URL: http://www.maximintegrated.com/; ComponentLink2Description: Datasheet; ComponentLink2URL: http://datasheets.maximintegrated.com/en/ds/DS3908.pdf; ComponentLink3Description: Package Specification; ComponentLink3URL: http://pdfserv.maximintegrated.com/package_dwgs/21-0137.PDF
footprint MAXM-T1433+1_V (SON, 14-Leads, Body 3x3mm, Pitch 0.4mm, Thermal Pad 2.35x1.78mm)
pins: 1 SDA (io) "I2C Serial Data. Input/output for I2C data.", 2 SCL (in) "I2C Serial Clock. Input for I2C clock.", 3 A0 (in) "Address-Select Input. Determines I2C address. Device address is 1010A2A1A0. (See the I2C Slave Address and Address Pins section for more details.)", 4 A1 (in) "Address-Select Input. Determines I2C address. Device address is 1010A2A1A0. (See the I2C Slave Address and Address Pins section for more details.)", 5 A2 (in) "Address-Select Input. Determines I2C address. Device address is 1010A2A1A0. (See the I2C Slave Address and Address Pins section for more details.)", 6 WP (in) "Write-Protect Input. Must be grounded to write to the registers. An internal pullup will lock the register values if this pin is not connected.", 7 GND (power) "Ground Terminal.", 8 L0 "Potentiometer Low Terminal. Voltage on this pin should remain between GND and VCC.", 9 V0 (out) "Amplifier Output.", 10 H0 "Potentiometer High Terminal. Voltage on this pin should remain between GND and VCC.", 11 L1 "Potentiometer Low Terminal. Voltage on this pin should remain between GND and VCC.", 12 V1 (out) "Amplifier Output.", 13 H1 "Potentiometer High Terminal. Voltage on this pin should remain between GND and VCC.", 14 VCC (power) "Supply Voltage Terminal.", 15 EP

## DS3930E+
designator U?
Hex Unbuffered DAC with I/O and Memory with 2-Wire Addressable Control Interface, Non-Volatile, Linear Taper, 256 Steps, -40 to 85 degC, 20-pin TSSOP (U20+5), Pb-Free; PartNumber: DS3930E+; DatasheetVersion: Rev. 0; PackageVersion: Rev. L, 07/2010; PackageReference: U20+5; PackageDescription: 20-Pin Thin Shrink Small-Outline Package (U20+5), Body 6.5 x 4.4 mm, Pitch 0.65 mm; Supplier 1: Digi-Key; Supplier Part Number 1: DS3930E+-ND; Supplier 2: Mouser; Supplier Part Number 2: 700-DS3930E; Control Interface: 2-Wire Addressable; Features: EEPROM Wiper Memory, Varactor Tuning for RF Applications; Mounting Technology: Surface Mount; Code_JEDEC: MO-153; ComponentLink1Description: Manufacturer URL; ComponentLink1URL: http://www.maximintegrated.com/; ComponentLink2Description: Datasheet; ComponentLink2URL: http://datasheets.maximintegrated.com/en/ds/DS3930.pdf; ComponentLink3Description: Package Specification; ComponentLink3URL: http://pdfserv.maximintegrated.com/package_dwgs/21-0066.PDF
footprint MAXM-U20+5_N (SOP, 20-Leads, Body 6.5x4.4mm, Pitch 0.65mm, IPC Medium Density)
footprint MAXM-U20+5_L (SOP, 20-Leads, Body 6.5x4.4mm, Pitch 0.65mm, IPC High Density)
footprint MAXM-U20+5_M (SOP, 20-Leads, Body 6.5x4.4mm, Pitch 0.65mm, IPC Low Density)
pins: 1 A0 (in) "Address Input. The address input pins determine the 2-wire address of the device.", 2 A1 (in) "Address Input", 3 A2 (in) "Address Input", 4 SDA (io) "2-Wire Serial Data I/O. This pin is for serial data transfer to and from the device.", 5 SCL (in) "2-Wire Serial Clock Input. The serial clock input is used to clock data into and out of the device.", 6 I/O0 (io) "General-Purpose NV I/O Pin", 7 I/O1 (io) "General-Purpose NV I/O Pin", 8 I/O2 (io) "General-Purpose NV I/O Pin", 9 VCC (power) "Supply Voltage", 10 GND (power) "Ground", 11 I/O3 (io) "General-Purpose NV I/O Pin", 12 W5 "Wiper Terminal of Potentiometer 5", 13 W4 "Wiper Terminal of Potentiometer 4", 14 W3 "Wiper Terminal of Potentiometer 3", 15 HI3-5 "High-End Terminal of Potentiometers 3 to 5. This is the common high-side terminal of potentiometers 3, 4, and 5.", 16 LO0-5 "Low-End Terminal of the Potentiometers. This is the common low-side terminal of all six potentiometers.", 17 W2 "Wiper Terminal of Potentiometer 2", 18 W1 "Wiper Terminal of Potentiometer 1", 19 W0 "Wiper Terminal of Potentiometer 0", 20 HI0-2 "High-End Terminal of Potentiometers 0 to 2. This is the common high-side terminal of potentiometers 0, 1, and 2."

## DS3930E+T&R
designator U?
Hex Unbuffered DAC with I/O and Memory with 2-Wire Addressable Control Interface, Non-Volatile, Linear Taper, 256 Steps, -40 to 85 degC, 20-pin TSSOP (U20+5), Pb-Free, Tape and Reel; PartNumber: DS3930E+T&R; DatasheetVersion: Rev. 0; PackageVersion: Rev. L, 07/2010; PackageReference: U20+5; PackageDescription: 20-Pin Thin Shrink Small-Outline Package (U20+5), Body 6.5 x 4.4 mm, Pitch 0.65 mm; Supplier 1: Digi-Key; Supplier Part Number 1: DS3930E+T&R-ND; Supplier 2: Mouser; Supplier Part Number 2: 700-DS3930ET&R; Control Interface: 2-Wire Addressable; Features: EEPROM Wiper Memory, Varactor Tuning for RF Applications; Mounting Technology: Surface Mount; Code_JEDEC: MO-153; ComponentLink1Description: Manufacturer URL; ComponentLink1URL: http://www.maximintegrated.com/; ComponentLink2Description: Datasheet; ComponentLink2URL: http://datasheets.maximintegrated.com/en/ds/DS3930.pdf; ComponentLink3Description: Package Specification; ComponentLink3URL: http://pdfserv.maximintegrated.com/package_dwgs/21-0066.PDF
footprint MAXM-U20+5_N (SOP, 20-Leads, Body 6.5x4.4mm, Pitch 0.65mm, IPC Medium Density)
footprint MAXM-U20+5_L (SOP, 20-Leads, Body 6.5x4.4mm, Pitch 0.65mm, IPC High Density)
footprint MAXM-U20+5_M (SOP, 20-Leads, Body 6.5x4.4mm, Pitch 0.65mm, IPC Low Density)
pins: 1 A0 (in) "Address Input. The address input pins determine the 2-wire address of the device.", 2 A1 (in) "Address Input", 3 A2 (in) "Address Input", 4 SDA (io) "2-Wire Serial Data I/O. This pin is for serial data transfer to and from the device.", 5 SCL (in) "2-Wire Serial Clock Input. The serial clock input is used to clock data into and out of the device.", 6 I/O0 (io) "General-Purpose NV I/O Pin", 7 I/O1 (io) "General-Purpose NV I/O Pin", 8 I/O2 (io) "General-Purpose NV I/O Pin", 9 VCC (power) "Supply Voltage", 10 GND (power) "Ground", 11 I/O3 (io) "General-Purpose NV I/O Pin", 12 W5 "Wiper Terminal of Potentiometer 5", 13 W4 "Wiper Terminal of Potentiometer 4", 14 W3 "Wiper Terminal of Potentiometer 3", 15 HI3-5 "High-End Terminal of Potentiometers 3 to 5. This is the common high-side terminal of potentiometers 3, 4, and 5.", 16 LO0-5 "Low-End Terminal of the Potentiometers. This is the common low-side terminal of all six potentiometers.", 17 W2 "Wiper Terminal of Potentiometer 2", 18 W1 "Wiper Terminal of Potentiometer 1", 19 W0 "Wiper Terminal of Potentiometer 0", 20 HI0-2 "High-End Terminal of Potentiometers 0 to 2. This is the common high-side terminal of potentiometers 0, 1, and 2."

## DS3930E/T&R
designator U?
Hex Unbuffered DAC with I/O and Memory with 2-Wire Addressable Control Interface, Non-Volatile, Linear Taper, 256 Steps, -40 to 85 degC, 20-pin TSSOP (U20-5), Tape and Reel; PartNumber: DS3930E/T&R; DatasheetVersion: Rev. 0; PackageVersion: Rev. L, 07/2010; PackageReference: U20-5; PackageDescription: 20-Pin Thin Shrink Small-Outline Package (U20-5), Body 6.5 x 4.4 mm, Pitch 0.65 mm; Supplier 1: Mouser; Supplier Part Number 1: N/A; Control Interface: 2-Wire Addressable; Features: EEPROM Wiper Memory, Varactor Tuning for RF Applications; Mounting Technology: Surface Mount; Code_JEDEC: MO-153; ComponentLink1Description: Manufacturer URL; ComponentLink1URL: http://www.maximintegrated.com/; ComponentLink2Description: Datasheet; ComponentLink2URL: http://datasheets.maximintegrated.com/en/ds/DS3930.pdf; ComponentLink3Description: Package Specification; ComponentLink3URL: http://pdfserv.maximintegrated.com/package_dwgs/21-0066.PDF
footprint MAXM-U20-5_N (SOP, 20-Leads, Body 6.5x4.4mm, Pitch 0.65mm, IPC Medium Density)
footprint MAXM-U20-5_L (SOP, 20-Leads, Body 6.5x4.4mm, Pitch 0.65mm, IPC High Density)
footprint MAXM-U20-5_M (SOP, 20-Leads, Body 6.5x4.4mm, Pitch 0.65mm, IPC Low Density)
pins: 1 A0 (in) "Address Input. The address input pins determine the 2-wire address of the device.", 2 A1 (in) "Address Input", 3 A2 (in) "Address Input", 4 SDA (io) "2-Wire Serial Data I/O. This pin is for serial data transfer to and from the device.", 5 SCL (in) "2-Wire Serial Clock Input. The serial clock input is used to clock data into and out of the device.", 6 I/O0 (io) "General-Purpose NV I/O Pin", 7 I/O1 (io) "General-Purpose NV I/O Pin", 8 I/O2 (io) "General-Purpose NV I/O Pin", 9 VCC (power) "Supply Voltage", 10 GND (power) "Ground", 11 I/O3 (io) "General-Purpose NV I/O Pin", 12 W5 "Wiper Terminal of Potentiometer 5", 13 W4 "Wiper Terminal of Potentiometer 4", 14 W3 "Wiper Terminal of Potentiometer 3", 15 HI3-5 "High-End Terminal of Potentiometers 3 to 5. This is the common high-side terminal of potentiometers 3, 4, and 5.", 16 LO0-5 "Low-End Terminal of the Potentiometers. This is the common low-side terminal of all six potentiometers.", 17 W2 "Wiper Terminal of Potentiometer 2", 18 W1 "Wiper Terminal of Potentiometer 1", 19 W0 "Wiper Terminal of Potentiometer 0", 20 HI0-2 "High-End Terminal of Potentiometers 0 to 2. This is the common high-side terminal of potentiometers 0, 1, and 2."